# Altium integrated library Renesas Logic.IntLib: 1013 symbols (part 3 of 27)
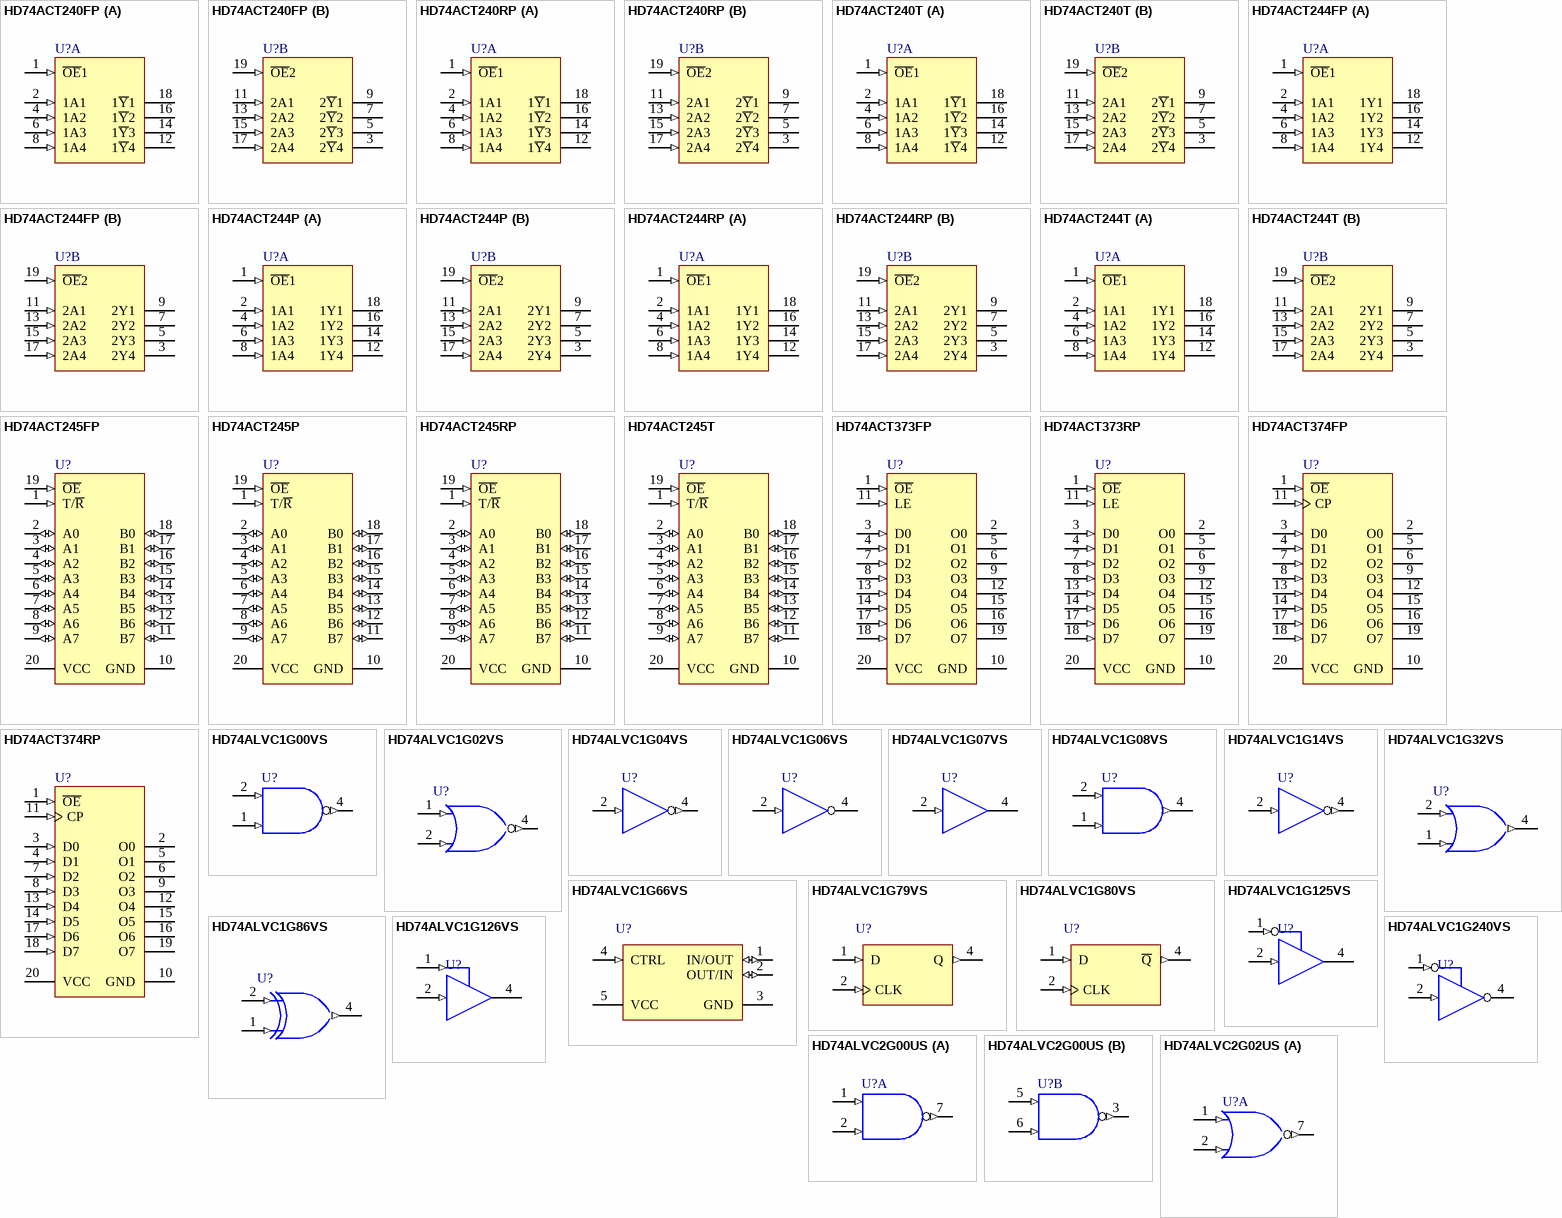
[diagram p55: symbols HD74ACT240FP to HD74ALVC2G02US]

## HD74ACT240FP
designator U?
Octal Buffers / Line Drivers with Inverted 3-State Outputs; Published: 10-Feb-2010; DatasheetVersion: Rev.2.00, Jul-2004; PackageVersion: Sep-2005; PackageReference: PRSP0020DD-B; Publisher: Altium Limited; PackageDescription: 20-Pin Plastic Small Outline Package, 12.6 x 5.5 x 1.8 mm Body, 1.27 mm Pitch; Code_JEITA: P-SOP20-5.5x12.6-1.27; ComponentLink1Description: Manufacturer Link; ComponentLink1URL: http://sg.renesas.com/fmwk.jsp?cnt=hd74ac_root.jsp&fp=/products/standard_ic/general_purpose_logic/5v_standard_logic/hd74ac/; ComponentLink2Description: Datasheet; ComponentLink2URL: http://documentation.renesas.com/eng/products/logic/rej03d0261_hd74ac240.pdf; ComponentLink3Description: Packaging Specification; ComponentLink3URL: http://sg.renesas.com/media/products/common_info/package/pdf/ic/code/prsp0020dd_b.pdf
footprint PRSP0020DD-B_N (SOP, 20-Leads, Body 12.6x5.3mm, Pitch 1.27mm, IPC Medium Density)
footprint PRSP0020DD-B_L (SOP, 20-Leads, Body 12.6x5.3mm, Pitch 1.27mm, IPC High Density)
footprint PRSP0020DD-B_M (SOP, 20-Leads, Body 12.6x5.3mm, Pitch 1.27mm, IPC Low Density)
pins on every part: 10 GND (power) hidden, 20 VCC (power) hidden
part A pins: 1 ~{OE}1 (in), 2 1A1 (in), 4 1A2 (in), 6 1A3 (in), 8 1A4 (in), 12 1~{Y}4 (hiz), 14 1~{Y}3 (hiz), 16 1~{Y}2 (hiz), 18 1~{Y}1 (hiz)
part B pins: 3 2~{Y}4 (hiz), 5 2~{Y}3 (hiz), 7 2~{Y}2 (hiz), 9 2~{Y}1 (hiz), 11 2A1 (in), 13 2A2 (in), 15 2A3 (in), 17 2A4 (in), 19 ~{OE}2 (in)

## HD74ACT240RP
designator U?
Octal Buffers / Line Drivers with Inverted 3-State Outputs; Published: 10-Feb-2010; DatasheetVersion: Rev.2.00, Jul-2004; PackageVersion: Sep-2005; PackageReference: PRSP0020DC-A; Publisher: Altium Limited; PackageDescription: 20-Pin Plastic Small Outline Integrated Circuit, 12.8 x 7.5 mm Body, 1.27 mm Pitch; Code_JEITA: P-SOP20-7.5x12.8-1.27; Code_IPC: SOIC127P1030-20; ComponentLink1Description: Manufacturer Link; ComponentLink1URL: http://sg.renesas.com/fmwk.jsp?cnt=hd74ac_root.jsp&fp=/products/standard_ic/general_purpose_logic/5v_standard_logic/hd74ac/; ComponentLink2Description: Datasheet; ComponentLink2URL: http://documentation.renesas.com/eng/products/logic/rej03d0261_hd74ac240.pdf; ComponentLink3Description: Packaging Specification; ComponentLink3URL: http://sg.renesas.com/media/products/common_info/package/pdf/ic/code/prsp0020dc_a.pdf
footprint PRSP0020DC-A_N (SOIC, 20-Leads, Body 12.8x7.5mm, Pitch 1.27mm, IPC Medium Density)
footprint PRSP0020DC-A_L (SOIC, 20-Leads, Body 12.8x7.5mm, Pitch 1.27mm, IPC High Density)
footprint PRSP0020DC-A_M (SOIC, 20-Leads, Body 12.8x7.5mm, Pitch 1.27mm, IPC Low Density)
pins on every part: 10 GND (power) hidden, 20 VCC (power) hidden
part A pins: 1 ~{OE}1 (in), 2 1A1 (in), 4 1A2 (in), 6 1A3 (in), 8 1A4 (in), 12 1~{Y}4 (hiz), 14 1~{Y}3 (hiz), 16 1~{Y}2 (hiz), 18 1~{Y}1 (hiz)
part B pins: 3 2~{Y}4 (hiz), 5 2~{Y}3 (hiz), 7 2~{Y}2 (hiz), 9 2~{Y}1 (hiz), 11 2A1 (in), 13 2A2 (in), 15 2A3 (in), 17 2A4 (in), 19 ~{OE}2 (in)

## HD74ACT240T
designator U?
Octal Buffers / Line Drivers with Inverted 3-State Outputs; Published: 10-Feb-2010; DatasheetVersion: Rev.2.00, Jul-2004; PackageVersion: Sep-2005; PackageReference: PTSP0020JB-A; Publisher: Altium Limited; PackageDescription: 20-Pin Plastic Thin Small Outline Package, 6.5 x 4.4 mm Body, 0.65 mm Pitch; Code_JEITA: P-TSSOP20-4.4x6.5-0.65; ComponentLink1Description: Manufacturer Link; ComponentLink1URL: http://sg.renesas.com/fmwk.jsp?cnt=hd74ac_root.jsp&fp=/products/standard_ic/general_purpose_logic/5v_standard_logic/hd74ac/; ComponentLink2Description: Datasheet; ComponentLink2URL: http://documentation.renesas.com/eng/products/logic/rej03d0261_hd74ac240.pdf; ComponentLink3Description: Packaging Specification; ComponentLink3URL: http://sg.renesas.com/media/products/common_info/package/pdf/ic/code/ptsp0020jb_a.pdf
footprint PTSP0020JB-A_N (TSOP, 20-Leads, Body 6.5x4.4mm, Pitch 0.65mm, IPC Medium Density)
footprint PTSP0020JB-A_L (TSOP, 20-Leads, Body 6.5x4.4mm, Pitch 0.65mm, IPC High Density)
footprint PTSP0020JB-A_M (TSOP, 20-Leads, Body 6.5x4.4mm, Pitch 0.65mm, IPC Low Density)
pins on every part: 10 GND (power) hidden, 20 VCC (power) hidden
part A pins: 1 ~{OE}1 (in), 2 1A1 (in), 4 1A2 (in), 6 1A3 (in), 8 1A4 (in), 12 1~{Y}4 (hiz), 14 1~{Y}3 (hiz), 16 1~{Y}2 (hiz), 18 1~{Y}1 (hiz)
part B pins: 3 2~{Y}4 (hiz), 5 2~{Y}3 (hiz), 7 2~{Y}2 (hiz), 9 2~{Y}1 (hiz), 11 2A1 (in), 13 2A2 (in), 15 2A3 (in), 17 2A4 (in), 19 ~{OE}2 (in)

## HD74ACT244FP
designator U?
Octal Buffers / Line Drivers with 3-State Outputs; Published: 10-Feb-2010; DatasheetVersion: Rev.2.00, Jul-2004; PackageVersion: Sep-2005; PackageReference: PRSP0020DD-B; Publisher: Altium Limited; PackageDescription: 20-Pin Plastic Small Outline Package, 12.6 x 5.5 x 1.8 mm Body, 1.27 mm Pitch; Code_JEITA: P-SOP20-5.5x12.6-1.27; ComponentLink1Description: Manufacturer Link; ComponentLink1URL: http://sg.renesas.com/fmwk.jsp?cnt=hd74ac_root.jsp&fp=/products/standard_ic/general_purpose_logic/5v_standard_logic/hd74ac/; ComponentLink2Description: Datasheet; ComponentLink2URL: http://documentation.renesas.com/eng/products/logic/rej03d0262_hd74ac244.pdf; ComponentLink3Description: Packaging Specification; ComponentLink3URL: http://sg.renesas.com/media/products/common_info/package/pdf/ic/code/prsp0020dd_b.pdf
footprint PRSP0020DD-B_N (SOP, 20-Leads, Body 12.6x5.3mm, Pitch 1.27mm, IPC Medium Density)
footprint PRSP0020DD-B_L (SOP, 20-Leads, Body 12.6x5.3mm, Pitch 1.27mm, IPC High Density)
footprint PRSP0020DD-B_M (SOP, 20-Leads, Body 12.6x5.3mm, Pitch 1.27mm, IPC Low Density)
pins on every part: 10 GND (power) hidden, 20 VCC (power) hidden
part A pins: 1 ~{OE}1 (in), 2 1A1 (in), 4 1A2 (in), 6 1A3 (in), 8 1A4 (in), 12 1Y4 (hiz), 14 1Y3 (hiz), 16 1Y2 (hiz), 18 1Y1 (hiz)
part B pins: 3 2Y4 (hiz), 5 2Y3 (hiz), 7 2Y2 (hiz), 9 2Y1 (hiz), 11 2A1 (in), 13 2A2 (in), 15 2A3 (in), 17 2A4 (in), 19 ~{OE}2 (in)

## HD74ACT244P
designator U?
Octal Buffers / Line Drivers with 3-State Outputs; Published: 10-Feb-2010; DatasheetVersion: Rev.2.00, Jul-2004; PackageVersion: Sep-2005; PackageReference: PRDP0020AC-B; Publisher: Altium Limited; PackageDescription: 20-Pin Plastic DIP, 24.5 x 6.3 mm Body, 7.62 mm Row Spacing, 2.54 mm Pitch; Code_JEITA: P-DIP20-6.3x24.5-2.54; ComponentLink1Description: Manufacturer Link; ComponentLink1URL: http://sg.renesas.com/fmwk.jsp?cnt=hd74ac_root.jsp&fp=/products/standard_ic/general_purpose_logic/5v_standard_logic/hd74ac/; ComponentLink2Description: Datasheet; ComponentLink2URL: http://documentation.renesas.com/eng/products/logic/rej03d0262_hd74ac244.pdf; ComponentLink3Description: Packaging Specification; ComponentLink3URL: http://sg.renesas.com/media/products/common_info/package/pdf/ic/code/prdp0020ac_b.pdf
footprint PRDP0020AC-B (DIP, 20-Leads, Row Spacing 7.62mm, Pitch 2.54mm, Body 24.5x6.3mm)
pins on every part: 10 GND (power) hidden, 20 VCC (power) hidden
part A pins: 1 ~{OE}1 (in), 2 1A1 (in), 4 1A2 (in), 6 1A3 (in), 8 1A4 (in), 12 1Y4 (hiz), 14 1Y3 (hiz), 16 1Y2 (hiz), 18 1Y1 (hiz)
part B pins: 3 2Y4 (hiz), 5 2Y3 (hiz), 7 2Y2 (hiz), 9 2Y1 (hiz), 11 2A1 (in), 13 2A2 (in), 15 2A3 (in), 17 2A4 (in), 19 ~{OE}2 (in)

## HD74ACT244RP
designator U?
Octal Buffers / Line Drivers with 3-State Outputs; Published: 10-Feb-2010; DatasheetVersion: Rev.2.00, Jul-2004; PackageVersion: Sep-2005; PackageReference: PRSP0020DC-A; Publisher: Altium Limited; PackageDescription: 20-Pin Plastic Small Outline Integrated Circuit, 12.8 x 7.5 mm Body, 1.27 mm Pitch; Code_JEITA: P-SOP20-7.5x12.8-1.27; Code_IPC: SOIC127P1030-20; ComponentLink1Description: Manufacturer Link; ComponentLink1URL: http://sg.renesas.com/fmwk.jsp?cnt=hd74ac_root.jsp&fp=/products/standard_ic/general_purpose_logic/5v_standard_logic/hd74ac/; ComponentLink2Description: Datasheet; ComponentLink2URL: http://documentation.renesas.com/eng/products/logic/rej03d0262_hd74ac244.pdf; ComponentLink3Description: Packaging Specification; ComponentLink3URL: http://sg.renesas.com/media/products/common_info/package/pdf/ic/code/prsp0020dc_a.pdf
footprint PRSP0020DC-A_N (SOIC, 20-Leads, Body 12.8x7.5mm, Pitch 1.27mm, IPC Medium Density)
footprint PRSP0020DC-A_L (SOIC, 20-Leads, Body 12.8x7.5mm, Pitch 1.27mm, IPC High Density)
footprint PRSP0020DC-A_M (SOIC, 20-Leads, Body 12.8x7.5mm, Pitch 1.27mm, IPC Low Density)
pins on every part: 10 GND (power) hidden, 20 VCC (power) hidden
part A pins: 1 ~{OE}1 (in), 2 1A1 (in), 4 1A2 (in), 6 1A3 (in), 8 1A4 (in), 12 1Y4 (hiz), 14 1Y3 (hiz), 16 1Y2 (hiz), 18 1Y1 (hiz)
part B pins: 3 2Y4 (hiz), 5 2Y3 (hiz), 7 2Y2 (hiz), 9 2Y1 (hiz), 11 2A1 (in), 13 2A2 (in), 15 2A3 (in), 17 2A4 (in), 19 ~{OE}2 (in)

## HD74ACT244T
designator U?
Octal Buffers / Line Drivers with 3-State Outputs; Published: 10-Feb-2010; DatasheetVersion: Rev.2.00, Jul-2004; PackageVersion: Sep-2005; PackageReference: PTSP0020JB-A; Publisher: Altium Limited; PackageDescription: 20-Pin Plastic Thin Small Outline Package, 6.5 x 4.4 mm Body, 0.65 mm Pitch; Code_JEITA: P-TSSOP20-4.4x6.5-0.65; ComponentLink1Description: Manufacturer Link; ComponentLink1URL: http://sg.renesas.com/fmwk.jsp?cnt=hd74ac_root.jsp&fp=/products/standard_ic/general_purpose_logic/5v_standard_logic/hd74ac/; ComponentLink2Description: Datasheet; ComponentLink2URL: http://documentation.renesas.com/eng/products/logic/rej03d0262_hd74ac244.pdf; ComponentLink3Description: Packaging Specification; ComponentLink3URL: http://sg.renesas.com/media/products/common_info/package/pdf/ic/code/ptsp0020jb_a.pdf
footprint PTSP0020JB-A_N (TSOP, 20-Leads, Body 6.5x4.4mm, Pitch 0.65mm, IPC Medium Density)
footprint PTSP0020JB-A_L (TSOP, 20-Leads, Body 6.5x4.4mm, Pitch 0.65mm, IPC High Density)
footprint PTSP0020JB-A_M (TSOP, 20-Leads, Body 6.5x4.4mm, Pitch 0.65mm, IPC Low Density)
pins on every part: 10 GND (power) hidden, 20 VCC (power) hidden
part A pins: 1 ~{OE}1 (in), 2 1A1 (in), 4 1A2 (in), 6 1A3 (in), 8 1A4 (in), 12 1Y4 (hiz), 14 1Y3 (hiz), 16 1Y2 (hiz), 18 1Y1 (hiz)
part B pins: 3 2Y4 (hiz), 5 2Y3 (hiz), 7 2Y2 (hiz), 9 2Y1 (hiz), 11 2A1 (in), 13 2A2 (in), 15 2A3 (in), 17 2A4 (in), 19 ~{OE}2 (in)

## HD74ACT245FP
designator U?
Octal Bi-directional Transceivers with 3-State Inputs/Outputs; Published: 10-Feb-2010; DatasheetVersion: Rev.2.00, Jul-2004; PackageVersion: Sep-2005; PackageReference: PRSP0020DD-B; Publisher: Altium Limited; PackageDescription: 20-Pin Plastic Small Outline Package, 12.6 x 5.5 x 1.8 mm Body, 1.27 mm Pitch; Code_JEITA: P-SOP20-5.5x12.6-1.27; ComponentLink1Description: Manufacturer Link; ComponentLink1URL: http://sg.renesas.com/fmwk.jsp?cnt=hd74ac_root.jsp&fp=/products/standard_ic/general_purpose_logic/5v_standard_logic/hd74ac/; ComponentLink2Description: Datasheet; ComponentLink2URL: http://documentation.renesas.com/eng/products/logic/rej03d0263_hd74ac245.pdf; ComponentLink3Description: Packaging Specification; ComponentLink3URL: http://sg.renesas.com/media/products/common_info/package/pdf/ic/code/prsp0020dd_b.pdf
footprint PRSP0020DD-B_N (SOP, 20-Leads, Body 12.6x5.3mm, Pitch 1.27mm, IPC Medium Density)
footprint PRSP0020DD-B_L (SOP, 20-Leads, Body 12.6x5.3mm, Pitch 1.27mm, IPC High Density)
footprint PRSP0020DD-B_M (SOP, 20-Leads, Body 12.6x5.3mm, Pitch 1.27mm, IPC Low Density)
pins: 1 T/~{R} (in), 2 A0 (io), 3 A1 (io), 4 A2 (io), 5 A3 (io), 6 A4 (io), 7 A5 (io), 8 A6 (io), 9 A7 (io), 10 GND (power), 11 B7 (io), 12 B6 (io), 13 B5 (io), 14 B4 (io), 15 B3 (io), 16 B2 (io), 17 B1 (io), 18 B0 (io), 19 ~{OE} (in), 20 VCC (power)

## HD74ACT245P
designator U?
Octal Bi-directional Transceivers with 3-State Inputs/Outputs; Published: 10-Feb-2010; DatasheetVersion: Rev.2.00, Jul-2004; PackageVersion: Sep-2005; PackageReference: PRDP0020AC-B; Publisher: Altium Limited; PackageDescription: 20-Pin Plastic DIP, 24.5 x 6.3 mm Body, 7.62 mm Row Spacing, 2.54 mm Pitch; Code_JEITA: P-DIP20-6.3x24.5-2.54; ComponentLink1Description: Manufacturer Link; ComponentLink1URL: http://sg.renesas.com/fmwk.jsp?cnt=hd74ac_root.jsp&fp=/products/standard_ic/general_purpose_logic/5v_standard_logic/hd74ac/; ComponentLink2Description: Datasheet; ComponentLink2URL: http://documentation.renesas.com/eng/products/logic/rej03d0263_hd74ac245.pdf; ComponentLink3Description: Packaging Specification; ComponentLink3URL: http://sg.renesas.com/media/products/common_info/package/pdf/ic/code/prdp0020ac_b.pdf
footprint PRDP0020AC-B (DIP, 20-Leads, Row Spacing 7.62mm, Pitch 2.54mm, Body 24.5x6.3mm)
pins: 1 T/~{R} (in), 2 A0 (io), 3 A1 (io), 4 A2 (io), 5 A3 (io), 6 A4 (io), 7 A5 (io), 8 A6 (io), 9 A7 (io), 10 GND (power), 11 B7 (io), 12 B6 (io), 13 B5 (io), 14 B4 (io), 15 B3 (io), 16 B2 (io), 17 B1 (io), 18 B0 (io), 19 ~{OE} (in), 20 VCC (power)

## HD74ACT245RP
designator U?
Octal Bi-directional Transceivers with 3-State Inputs/Outputs; Published: 10-Feb-2010; DatasheetVersion: Rev.2.00, Jul-2004; PackageVersion: Sep-2005; PackageReference: PRSP0020DC-A; Publisher: Altium Limited; PackageDescription: 20-Pin Plastic Small Outline Integrated Circuit, 12.8 x 7.5 mm Body, 1.27 mm Pitch; Code_JEITA: P-SOP20-7.5x12.8-1.27; Code_IPC: SOIC127P1030-20; ComponentLink1Description: Manufacturer Link; ComponentLink1URL: http://sg.renesas.com/fmwk.jsp?cnt=hd74ac_root.jsp&fp=/products/standard_ic/general_purpose_logic/5v_standard_logic/hd74ac/; ComponentLink2Description: Datasheet; ComponentLink2URL: http://documentation.renesas.com/eng/products/logic/rej03d0263_hd74ac245.pdf; ComponentLink3Description: Packaging Specification; ComponentLink3URL: http://sg.renesas.com/media/products/common_info/package/pdf/ic/code/prsp0020dc_a.pdf
footprint PRSP0020DC-A_N (SOIC, 20-Leads, Body 12.8x7.5mm, Pitch 1.27mm, IPC Medium Density)
footprint PRSP0020DC-A_L (SOIC, 20-Leads, Body 12.8x7.5mm, Pitch 1.27mm, IPC High Density)
footprint PRSP0020DC-A_M (SOIC, 20-Leads, Body 12.8x7.5mm, Pitch 1.27mm, IPC Low Density)
pins: 1 T/~{R} (in), 2 A0 (io), 3 A1 (io), 4 A2 (io), 5 A3 (io), 6 A4 (io), 7 A5 (io), 8 A6 (io), 9 A7 (io), 10 GND (power), 11 B7 (io), 12 B6 (io), 13 B5 (io), 14 B4 (io), 15 B3 (io), 16 B2 (io), 17 B1 (io), 18 B0 (io), 19 ~{OE} (in), 20 VCC (power)

## HD74ACT245T
designator U?
Octal Bi-directional Transceivers with 3-State Inputs/Outputs; Published: 10-Feb-2010; DatasheetVersion: Rev.2.00, Jul-2004; PackageVersion: Sep-2005; PackageReference: PTSP0020JB-A; Publisher: Altium Limited; PackageDescription: 20-Pin Plastic Thin Small Outline Package, 6.5 x 4.4 mm Body, 0.65 mm Pitch; Code_JEITA: P-TSSOP20-4.4x6.5-0.65; ComponentLink1Description: Manufacturer Link; ComponentLink1URL: http://sg.renesas.com/fmwk.jsp?cnt=hd74ac_root.jsp&fp=/products/standard_ic/general_purpose_logic/5v_standard_logic/hd74ac/; ComponentLink2Description: Datasheet; ComponentLink2URL: http://documentation.renesas.com/eng/products/logic/rej03d0263_hd74ac245.pdf; ComponentLink3Description: Packaging Specification; ComponentLink3URL: http://sg.renesas.com/media/products/common_info/package/pdf/ic/code/ptsp0020jb_a.pdf
footprint PTSP0020JB-A_N (TSOP, 20-Leads, Body 6.5x4.4mm, Pitch 0.65mm, IPC Medium Density)
footprint PTSP0020JB-A_L (TSOP, 20-Leads, Body 6.5x4.4mm, Pitch 0.65mm, IPC High Density)
footprint PTSP0020JB-A_M (TSOP, 20-Leads, Body 6.5x4.4mm, Pitch 0.65mm, IPC Low Density)
pins: 1 T/~{R} (in), 2 A0 (io), 3 A1 (io), 4 A2 (io), 5 A3 (io), 6 A4 (io), 7 A5 (io), 8 A6 (io), 9 A7 (io), 10 GND (power), 11 B7 (io), 12 B6 (io), 13 B5 (io), 14 B4 (io), 15 B3 (io), 16 B2 (io), 17 B1 (io), 18 B0 (io), 19 ~{OE} (in), 20 VCC (power)

## HD74ACT373FP
designator U?
Octal Transparent Latches with 3-State Outputs; Published: 10-Feb-2010; DatasheetVersion: Rev.2.00, Jul-2004; PackageVersion: Sep-2005; PackageReference: PRSP0020DD-B; Publisher: Altium Limited; PackageDescription: 20-Pin Plastic Small Outline Package, 12.6 x 5.5 x 1.8 mm Body, 1.27 mm Pitch; Code_JEITA: P-SOP20-5.5x12.6-1.27; ComponentLink1Description: Manufacturer Link; ComponentLink1URL: http://sg.renesas.com/fmwk.jsp?cnt=hd74ac_root.jsp&fp=/products/standard_ic/general_purpose_logic/5v_standard_logic/hd74ac/; ComponentLink2Description: Datasheet; ComponentLink2URL: http://documentation.renesas.com/eng/products/logic/rej03d0273_hd74ac373.pdf; ComponentLink3Description: Packaging Specification; ComponentLink3URL: http://sg.renesas.com/media/products/common_info/package/pdf/ic/code/prsp0020dd_b.pdf
footprint PRSP0020DD-B_N (SOP, 20-Leads, Body 12.6x5.3mm, Pitch 1.27mm, IPC Medium Density)
footprint PRSP0020DD-B_L (SOP, 20-Leads, Body 12.6x5.3mm, Pitch 1.27mm, IPC High Density)
footprint PRSP0020DD-B_M (SOP, 20-Leads, Body 12.6x5.3mm, Pitch 1.27mm, IPC Low Density)
pins: 1 ~{OE} (in), 2 O0 (hiz), 3 D0 (in), 4 D1 (in), 5 O1 (hiz), 6 O2 (hiz), 7 D2 (in), 8 D3 (in), 9 O3 (hiz), 10 GND (power), 11 LE (in), 12 O4 (hiz), 13 D4 (in), 14 D5 (in), 15 O5 (hiz), 16 O6 (hiz), 17 D6 (in), 18 D7 (in), 19 O7 (hiz), 20 VCC (power)

## HD74ACT373RP
designator U?
Octal Transparent Latches with 3-State Outputs; Published: 10-Feb-2010; DatasheetVersion: Rev.2.00, Jul-2004; PackageVersion: Sep-2005; PackageReference: PRSP0020DC-A; Publisher: Altium Limited; PackageDescription: 20-Pin Plastic Small Outline Integrated Circuit, 12.8 x 7.5 mm Body, 1.27 mm Pitch; Code_JEITA: P-SOP20-7.5x12.8-1.27; Code_IPC: SOIC127P1030-20; ComponentLink1Description: Manufacturer Link; ComponentLink1URL: http://sg.renesas.com/fmwk.jsp?cnt=hd74ac_root.jsp&fp=/products/standard_ic/general_purpose_logic/5v_standard_logic/hd74ac/; ComponentLink2Description: Datasheet; ComponentLink2URL: http://documentation.renesas.com/eng/products/logic/rej03d0273_hd74ac373.pdf; ComponentLink3Description: Packaging Specification; ComponentLink3URL: http://sg.renesas.com/media/products/common_info/package/pdf/ic/code/prsp0020dc_a.pdf
footprint PRSP0020DC-A_N (SOIC, 20-Leads, Body 12.8x7.5mm, Pitch 1.27mm, IPC Medium Density)
footprint PRSP0020DC-A_L (SOIC, 20-Leads, Body 12.8x7.5mm, Pitch 1.27mm, IPC High Density)
footprint PRSP0020DC-A_M (SOIC, 20-Leads, Body 12.8x7.5mm, Pitch 1.27mm, IPC Low Density)
pins: 1 ~{OE} (in), 2 O0 (hiz), 3 D0 (in), 4 D1 (in), 5 O1 (hiz), 6 O2 (hiz), 7 D2 (in), 8 D3 (in), 9 O3 (hiz), 10 GND (power), 11 LE (in), 12 O4 (hiz), 13 D4 (in), 14 D5 (in), 15 O5 (hiz), 16 O6 (hiz), 17 D6 (in), 18 D7 (in), 19 O7 (hiz), 20 VCC (power)

## HD74ACT374FP
designator U?
Octal D-Type Flip-Flops with 3-State Output; Published: 10-Feb-2010; DatasheetVersion: Rev.2.00, Jul-2004; PackageVersion: Sep-2005; PackageReference: PRSP0020DD-B; Publisher: Altium Limited; PackageDescription: 20-Pin Plastic Small Outline Package, 12.6 x 5.5 x 1.8 mm Body, 1.27 mm Pitch; Code_JEITA: P-SOP20-5.5x12.6-1.27; ComponentLink1Description: Manufacturer Link; ComponentLink1URL: http://sg.renesas.com/fmwk.jsp?cnt=hd74ac_root.jsp&fp=/products/standard_ic/general_purpose_logic/5v_standard_logic/hd74ac/; ComponentLink2Description: Datasheet; ComponentLink2URL: http://documentation.renesas.com/eng/products/logic/rej03d0274_hd74ac374.pdf; ComponentLink3Description: Packaging Specification; ComponentLink3URL: http://sg.renesas.com/media/products/common_info/package/pdf/ic/code/prsp0020dd_b.pdf
footprint PRSP0020DD-B_N (SOP, 20-Leads, Body 12.6x5.3mm, Pitch 1.27mm, IPC Medium Density)
footprint PRSP0020DD-B_L (SOP, 20-Leads, Body 12.6x5.3mm, Pitch 1.27mm, IPC High Density)
footprint PRSP0020DD-B_M (SOP, 20-Leads, Body 12.6x5.3mm, Pitch 1.27mm, IPC Low Density)
pins: 1 ~{OE} (in), 2 O0 (hiz), 3 D0 (in), 4 D1 (in), 5 O1 (hiz), 6 O2 (hiz), 7 D2 (in), 8 D3 (in), 9 O3 (hiz), 10 GND (power), 11 CP (in), 12 O4 (hiz), 13 D4 (in), 14 D5 (in), 15 O5 (hiz), 16 O6 (hiz), 17 D6 (in), 18 D7 (in), 19 O7 (hiz), 20 VCC (power)

## HD74ACT374RP
designator U?
Octal D-Type Flip-Flops with 3-State Output; Published: 10-Feb-2010; DatasheetVersion: Rev.2.00, Jul-2004; PackageVersion: Sep-2005; PackageReference: PRSP0020DC-A; Publisher: Altium Limited; PackageDescription: 20-Pin Plastic Small Outline Integrated Circuit, 12.8 x 7.5 mm Body, 1.27 mm Pitch; Code_JEITA: P-SOP20-7.5x12.8-1.27; Code_IPC: SOIC127P1030-20; ComponentLink1Description: Manufacturer Link; ComponentLink1URL: http://sg.renesas.com/fmwk.jsp?cnt=hd74ac_root.jsp&fp=/products/standard_ic/general_purpose_logic/5v_standard_logic/hd74ac/; ComponentLink2Description: Datasheet; ComponentLink2URL: http://documentation.renesas.com/eng/products/logic/rej03d0274_hd74ac374.pdf; ComponentLink3Description: Packaging Specification; ComponentLink3URL: http://sg.renesas.com/media/products/common_info/package/pdf/ic/code/prsp0020dc_a.pdf
footprint PRSP0020DC-A_N (SOIC, 20-Leads, Body 12.8x7.5mm, Pitch 1.27mm, IPC Medium Density)
footprint PRSP0020DC-A_L (SOIC, 20-Leads, Body 12.8x7.5mm, Pitch 1.27mm, IPC High Density)
footprint PRSP0020DC-A_M (SOIC, 20-Leads, Body 12.8x7.5mm, Pitch 1.27mm, IPC Low Density)
pins: 1 ~{OE} (in), 2 O0 (hiz), 3 D0 (in), 4 D1 (in), 5 O1 (hiz), 6 O2 (hiz), 7 D2 (in), 8 D3 (in), 9 O3 (hiz), 10 GND (power), 11 CP (in), 12 O4 (hiz), 13 D4 (in), 14 D5 (in), 15 O5 (hiz), 16 O6 (hiz), 17 D6 (in), 18 D7 (in), 19 O7 (hiz), 20 VCC (power)

## HD74ALVC1G00VS
designator U?
2-Input NAND Gate; Published: 10-Feb-2010; DatasheetVersion: Rev.6.00, Jun-2005; PackageVersion: Sep-2005; PackageReference: PUSN0005KA-A; Publisher: Altium Limited; PackageDescription: 5-Pin Dual Lead-Flat Package 0.5 mm Pitch (VSON-5); Code_JEITA: P-USON5-1.2x1.6-0.50; ComponentLink1Description: Manufacturer Link; ComponentLink1URL: http://sg.renesas.com/fmwk.jsp?cnt=unilogic_alvc_root.jsp&fp=/products/standard_ic/general_purpose_logic/uni_logic/unilogic_alvc/; ComponentLink2Description: Datasheet; ComponentLink2URL: http://documentation.renesas.com/eng/products/logic/rej03d0105_hd74alvc1g00.pdf; ComponentLink3Description: Packaging Specification; ComponentLink3URL: http://sg.renesas.com/media/products/common_info/package/pdf/ic/code/pusn0005ka_a.pdf
footprint PUSN0005KA-A (SOP, 5-Flat Leads, Body 1.6x1.2x0.55mm, Pitch 0.5mm, Renesas Recommended)
pins: 1 IN B (in), 2 IN A (in), 3 GND (power) hidden, 4 OUT Y (out), 5 VCC (power) hidden

## HD74ALVC1G02VS
designator U?
2-Input NOR Gate; Published: 10-Feb-2010; DatasheetVersion: Rev.6.00, Jun-2005; PackageVersion: Sep-2005; PackageReference: PUSN0005KA-A; Publisher: Altium Limited; PackageDescription: 5-Pin Dual Lead-Flat Package 0.5 mm Pitch (VSON-5); Code_JEITA: P-USON5-1.2x1.6-0.50; ComponentLink1Description: Manufacturer Link; ComponentLink1URL: http://sg.renesas.com/fmwk.jsp?cnt=unilogic_alvc_root.jsp&fp=/products/standard_ic/general_purpose_logic/uni_logic/unilogic_alvc/; ComponentLink2Description: Datasheet; ComponentLink2URL: http://documentation.renesas.com/eng/products/logic/rej03d0106_hd74alvc1g02.pdf; ComponentLink3Description: Packaging Specification; ComponentLink3URL: http://sg.renesas.com/media/products/common_info/package/pdf/ic/code/pusn0005ka_a.pdf
footprint PUSN0005KA-A (SOP, 5-Flat Leads, Body 1.6x1.2x0.55mm, Pitch 0.5mm, Renesas Recommended)
pins: 1 IN B (in), 2 IN A (in), 3 GND (power) hidden, 4 OUT Y (out), 5 VCC (power) hidden

## HD74ALVC1G04VS
designator U?
Single Inverter Buffer; Published: 10-Feb-2010; DatasheetVersion: Rev.2.00, Oct-2003; PackageVersion: Sep-2005; PackageReference: PUSN0005KA-A; Publisher: Altium Limited; PackageDescription: 5-Pin Dual Lead-Flat Package 0.5 mm Pitch (VSON-5); Code_JEITA: P-USON5-1.2x1.6-0.50; ComponentLink1Description: Manufacturer Link; ComponentLink1URL: http://sg.renesas.com/fmwk.jsp?cnt=unilogic_alvc_root.jsp&fp=/products/standard_ic/general_purpose_logic/uni_logic/unilogic_alvc/; ComponentLink2Description: Datasheet; ComponentLink2URL: http://documentation.renesas.com/eng/products/logic/rej03d0107_hd74alvc1g04.pdf; ComponentLink3Description: Packaging Specification; ComponentLink3URL: http://sg.renesas.com/media/products/common_info/package/pdf/ic/code/pusn0005ka_a.pdf
footprint PUSN0005KA-A (SOP, 5-Flat Leads, Body 1.6x1.2x0.55mm, Pitch 0.5mm, Renesas Recommended)
pins: 1 NC hidden, 2 IN A (in), 3 GND (power) hidden, 4 OUT ~{Y} (out), 5 VCC (power) hidden

## HD74ALVC1G06VS
designator U?
Single Inverter Buffer / Driver with Open Drain; Published: 10-Feb-2010; DatasheetVersion: Rev.5.00, Sep-2006; PackageVersion: Sep-2005; PackageReference: PUSN0005KA-A; Publisher: Altium Limited; PackageDescription: 5-Pin Dual Lead-Flat Package 0.5 mm Pitch (VSON-5); Code_JEITA: P-USON5-1.2x1.6-0.50; ComponentLink1Description: Manufacturer Link; ComponentLink1URL: http://sg.renesas.com/fmwk.jsp?cnt=unilogic_alvc_root.jsp&fp=/products/standard_ic/general_purpose_logic/uni_logic/unilogic_alvc/; ComponentLink2Description: Datasheet; ComponentLink2URL: http://documentation.renesas.com/eng/products/logic/rej03d0108_hd74alvc1g06.pdf; ComponentLink3Description: Packaging Specification; ComponentLink3URL: http://sg.renesas.com/media/products/common_info/package/pdf/ic/code/pusn0005ka_a.pdf
footprint PUSN0005KA-A (SOP, 5-Flat Leads, Body 1.6x1.2x0.55mm, Pitch 0.5mm, Renesas Recommended)
pins: 1 NC hidden, 2 IN A (in), 3 GND (power) hidden, 4 OUT ~{Y} (oc), 5 VCC (power) hidden

## HD74ALVC1G07VS
designator U?
Single Buffer / Driver with Open Drain; Published: 10-Feb-2010; DatasheetVersion: Rev.5.00, Sep-2006; PackageVersion: Sep-2005; PackageReference: PUSN0005KA-A; Publisher: Altium Limited; PackageDescription: 5-Pin Dual Lead-Flat Package 0.5 mm Pitch (VSON-5); Code_JEITA: P-USON5-1.2x1.6-0.50; ComponentLink1Description: Manufacturer Link; ComponentLink1URL: http://sg.renesas.com/fmwk.jsp?cnt=unilogic_alvc_root.jsp&fp=/products/standard_ic/general_purpose_logic/uni_logic/unilogic_alvc/; ComponentLink2Description: Datasheet; ComponentLink2URL: http://documentation.renesas.com/eng/products/logic/rej03d0109_hd74alvc1g07.pdf; ComponentLink3Description: Packaging Specification; ComponentLink3URL: http://sg.renesas.com/media/products/common_info/package/pdf/ic/code/pusn0005ka_a.pdf
footprint PUSN0005KA-A (SOP, 5-Flat Leads, Body 1.6x1.2x0.55mm, Pitch 0.5mm, Renesas Recommended)
pins: 1 NC hidden, 2 IN A (in), 3 GND (power) hidden, 4 OUT Y (oc), 5 VCC (power) hidden

## HD74ALVC1G08VS
designator U?
2-Input AND Gate; Published: 10-Feb-2010; DatasheetVersion: Rev.6.00, Jun-2005; PackageVersion: Sep-2005; PackageReference: PUSN0005KA-A; Publisher: Altium Limited; PackageDescription: 5-Pin Dual Lead-Flat Package 0.5 mm Pitch (VSON-5); Code_JEITA: P-USON5-1.2x1.6-0.50; ComponentLink1Description: Manufacturer Link; ComponentLink1URL: http://sg.renesas.com/fmwk.jsp?cnt=unilogic_alvc_root.jsp&fp=/products/standard_ic/general_purpose_logic/uni_logic/unilogic_alvc/; ComponentLink2Description: Datasheet; ComponentLink2URL: http://documentation.renesas.com/eng/products/logic/rej03d0110_hd74alvc1g08.pdf; ComponentLink3Description: Packaging Specification; ComponentLink3URL: http://sg.renesas.com/media/products/common_info/package/pdf/ic/code/pusn0005ka_a.pdf
footprint PUSN0005KA-A (SOP, 5-Flat Leads, Body 1.6x1.2x0.55mm, Pitch 0.5mm, Renesas Recommended)
pins: 1 IN B (in), 2 IN A (in), 3 GND (power) hidden, 4 OUT Y (out), 5 VCC (power) hidden

## HD74ALVC1G14VS
designator U?
Schmitt Trigger Inverter Buffer; Published: 10-Feb-2010; DatasheetVersion: Rev.3.00, Nov-2003; PackageVersion: Sep-2005; PackageReference: PUSN0005KA-A; Publisher: Altium Limited; PackageDescription: 5-Pin Dual Lead-Flat Package 0.5 mm Pitch (VSON-5); Code_JEITA: P-USON5-1.2x1.6-0.50; ComponentLink1Description: Manufacturer Link; ComponentLink1URL: http://sg.renesas.com/fmwk.jsp?cnt=unilogic_alvc_root.jsp&fp=/products/standard_ic/general_purpose_logic/uni_logic/unilogic_alvc/; ComponentLink2Description: Datasheet; ComponentLink2URL: http://documentation.renesas.com/eng/products/logic/rej03d0111_hd74alvc1g14.pdf; ComponentLink3Description: Packaging Specification; ComponentLink3URL: http://sg.renesas.com/media/products/common_info/package/pdf/ic/code/pusn0005ka_a.pdf
footprint PUSN0005KA-A (SOP, 5-Flat Leads, Body 1.6x1.2x0.55mm, Pitch 0.5mm, Renesas Recommended)
pins: 1 NC hidden, 2 IN A (in), 3 GND (power) hidden, 4 OUT ~{Y} (out), 5 VCC (power) hidden

## HD74ALVC1G32VS
designator U?
2-Input OR Gate; Published: 10-Feb-2010; DatasheetVersion: Rev.6.00, Jun-2005; PackageVersion: Sep-2005; PackageReference: PUSN0005KA-A; Publisher: Altium Limited; PackageDescription: 5-Pin Dual Lead-Flat Package 0.5 mm Pitch (VSON-5); Code_JEITA: P-USON5-1.2x1.6-0.50; ComponentLink1Description: Manufacturer Link; ComponentLink1URL: http://sg.renesas.com/fmwk.jsp?cnt=unilogic_alvc_root.jsp&fp=/products/standard_ic/general_purpose_logic/uni_logic/unilogic_alvc/; ComponentLink2Description: Datasheet; ComponentLink2URL: http://documentation.renesas.com/eng/products/logic/rej03d0112_hd74alvc1g32.pdf; ComponentLink3Description: Packaging Specification; ComponentLink3URL: http://sg.renesas.com/media/products/common_info/package/pdf/ic/code/pusn0005ka_a.pdf
footprint PUSN0005KA-A (SOP, 5-Flat Leads, Body 1.6x1.2x0.55mm, Pitch 0.5mm, Renesas Recommended)
pins: 1 IN B (in), 2 IN A (in), 3 GND (power) hidden, 4 OUT Y (out), 5 VCC (power) hidden

## HD74ALVC1G66VS
designator U?
Analog Switch; Published: 10-Feb-2010; DatasheetVersion: Rev.3.00, Nov-2003; PackageVersion: Sep-2005; PackageReference: PUSN0005KA-A; Publisher: Altium Limited; PackageDescription: 5-Pin Dual Lead-Flat Package 0.5 mm Pitch (VSON-5); Code_JEITA: P-USON5-1.2x1.6-0.50; ComponentLink1Description: Manufacturer Link; ComponentLink1URL: http://sg.renesas.com/fmwk.jsp?cnt=unilogic_alvc_root.jsp&fp=/products/standard_ic/general_purpose_logic/uni_logic/unilogic_alvc/; ComponentLink2Description: Datasheet; ComponentLink2URL: http://documentation.renesas.com/eng/products/logic/rej03d0125_hd74alvc1g66.pdf; ComponentLink3Description: Packaging Specification; ComponentLink3URL: http://sg.renesas.com/media/products/common_info/package/pdf/ic/code/pusn0005ka_a.pdf
footprint PUSN0005KA-A (SOP, 5-Flat Leads, Body 1.6x1.2x0.55mm, Pitch 0.5mm, Renesas Recommended)
pins: 1 IN/OUT (io), 2 OUT/IN (io), 3 GND (power), 4 CTRL (in), 5 VCC (power)

## HD74ALVC1G79VS
designator U?
Single Positive Edge-Triggered D-Type Flip-Flop; Published: 10-Feb-2010; DatasheetVersion: Rev.3.00, Nov-2003; PackageVersion: Sep-2005; PackageReference: PUSN0005KA-A; Publisher: Altium Limited; PackageDescription: 5-Pin Dual Lead-Flat Package 0.5 mm Pitch (VSON-5); Code_JEITA: P-USON5-1.2x1.6-0.50; ComponentLink1Description: Manufacturer Link; ComponentLink1URL: http://sg.renesas.com/fmwk.jsp?cnt=unilogic_alvc_root.jsp&fp=/products/standard_ic/general_purpose_logic/uni_logic/unilogic_alvc/; ComponentLink2Description: Datasheet; ComponentLink2URL: http://documentation.renesas.com/eng/products/logic/rej03d0126_hd74alvc1g79.pdf; ComponentLink3Description: Packaging Specification; ComponentLink3URL: http://sg.renesas.com/media/products/common_info/package/pdf/ic/code/pusn0005ka_a.pdf
footprint PUSN0005KA-A (SOP, 5-Flat Leads, Body 1.6x1.2x0.55mm, Pitch 0.5mm, Renesas Recommended)
pins: 1 D (in), 2 CLK (in), 3 GND (power) hidden, 4 Q (out), 5 VCC (power) hidden

## HD74ALVC1G80VS
designator U?
Single Positive Edge-Triggered D-Type Flip-Flop; Published: 10-Feb-2010; DatasheetVersion: Rev.3.00, Nov-2003; PackageVersion: Sep-2005; PackageReference: PUSN0005KA-A; Publisher: Altium Limited; PackageDescription: 5-Pin Dual Lead-Flat Package 0.5 mm Pitch (VSON-5); Code_JEITA: P-USON5-1.2x1.6-0.50; ComponentLink1Description: Manufacturer Link; ComponentLink1URL: http://sg.renesas.com/fmwk.jsp?cnt=unilogic_alvc_root.jsp&fp=/products/standard_ic/general_purpose_logic/uni_logic/unilogic_alvc/; ComponentLink2Description: Datasheet; ComponentLink2URL: http://documentation.renesas.com/eng/products/logic/rej03d0127_hd74alvc1g80.pdf; ComponentLink3Description: Packaging Specification; ComponentLink3URL: http://sg.renesas.com/media/products/common_info/package/pdf/ic/code/pusn0005ka_a.pdf
footprint PUSN0005KA-A (SOP, 5-Flat Leads, Body 1.6x1.2x0.55mm, Pitch 0.5mm, Renesas Recommended)
pins: 1 D (in), 2 CLK (in), 3 GND (power) hidden, 4 ~{Q} (out), 5 VCC (power) hidden

## HD74ALVC1G86VS
designator U?
2-Input Exclusive-OR Gate; Published: 10-Feb-2010; DatasheetVersion: Rev.5.00, Jun-2005; PackageVersion: Sep-2005; PackageReference: PUSN0005KA-A; Publisher: Altium Limited; PackageDescription: 5-Pin Dual Lead-Flat Package 0.5 mm Pitch (VSON-5); Code_JEITA: P-USON5-1.2x1.6-0.50; ComponentLink1Description: Manufacturer Link; ComponentLink1URL: http://sg.renesas.com/fmwk.jsp?cnt=unilogic_alvc_root.jsp&fp=/products/standard_ic/general_purpose_logic/uni_logic/unilogic_alvc/; ComponentLink2Description: Datasheet; ComponentLink2URL: http://documentation.renesas.com/eng/products/logic/rej03d0128_hd74alvc1g86.pdf; ComponentLink3Description: Packaging Specification; ComponentLink3URL: http://sg.renesas.com/media/products/common_info/package/pdf/ic/code/pusn0005ka_a.pdf
footprint PUSN0005KA-A (SOP, 5-Flat Leads, Body 1.6x1.2x0.55mm, Pitch 0.5mm, Renesas Recommended)
pins: 1 IN B (in), 2 IN A (in), 3 GND (power) hidden, 4 OUT Y (out), 5 VCC (power) hidden

## HD74ALVC1G125VS
designator U?
Bus Buffer Gate with 3-State Output; Published: 10-Feb-2010; DatasheetVersion: Rev.3.00, Nov-2003; PackageVersion: Sep-2005; PackageReference: PUSN0005KA-A; Publisher: Altium Limited; PackageDescription: 5-Pin Dual Lead-Flat Package 0.5 mm Pitch (VSON-5); Code_JEITA: P-USON5-1.2x1.6-0.50; ComponentLink1Description: Manufacturer Link; ComponentLink1URL: http://sg.renesas.com/fmwk.jsp?cnt=unilogic_alvc_root.jsp&fp=/products/standard_ic/general_purpose_logic/uni_logic/unilogic_alvc/; ComponentLink2Description: Datasheet; ComponentLink2URL: http://documentation.renesas.com/eng/products/logic/rej03d0129_hd74alvc1g125.pdf; ComponentLink3Description: Packaging Specification; ComponentLink3URL: http://sg.renesas.com/media/products/common_info/package/pdf/ic/code/pusn0005ka_a.pdf
footprint PUSN0005KA-A (SOP, 5-Flat Leads, Body 1.6x1.2x0.55mm, Pitch 0.5mm, Renesas Recommended)
pins: 1 ~{OE} (in), 2 A (in), 3 GND (power) hidden, 4 Y (hiz), 5 VCC (power) hidden

## HD74ALVC1G126VS
designator U?
Bus Buffer Gate with 3-State Output; Published: 10-Feb-2010; DatasheetVersion: Rev.3.00, Nov-2003; PackageVersion: Sep-2005; PackageReference: PUSN0005KA-A; Publisher: Altium Limited; PackageDescription: 5-Pin Dual Lead-Flat Package 0.5 mm Pitch (VSON-5); Code_JEITA: P-USON5-1.2x1.6-0.50; ComponentLink1Description: Manufacturer Link; ComponentLink1URL: http://sg.renesas.com/fmwk.jsp?cnt=unilogic_alvc_root.jsp&fp=/products/standard_ic/general_purpose_logic/uni_logic/unilogic_alvc/; ComponentLink2Description: Datasheet; ComponentLink2URL: http://documentation.renesas.com/eng/products/logic/rej03d0130_hd74alvc1g126.pdf; ComponentLink3Description: Packaging Specification; ComponentLink3URL: http://sg.renesas.com/media/products/common_info/package/pdf/ic/code/pusn0005ka_a.pdf
footprint PUSN0005KA-A (SOP, 5-Flat Leads, Body 1.6x1.2x0.55mm, Pitch 0.5mm, Renesas Recommended)
pins: 1 OE (in), 2 A (in), 3 GND (power) hidden, 4 Y (hiz), 5 VCC (power) hidden

## HD74ALVC1G240VS
designator U?
Bus Buffer Inverted with 3-State Output; Published: 10-Feb-2010; DatasheetVersion: Rev.3.00, Nov-2003; PackageVersion: Sep-2005; PackageReference: PUSN0005KA-A; Publisher: Altium Limited; PackageDescription: 5-Pin Dual Lead-Flat Package 0.5 mm Pitch (VSON-5); Code_JEITA: P-USON5-1.2x1.6-0.50; ComponentLink1Description: Manufacturer Link; ComponentLink1URL: http://sg.renesas.com/fmwk.jsp?cnt=unilogic_alvc_root.jsp&fp=/products/standard_ic/general_purpose_logic/uni_logic/unilogic_alvc/; ComponentLink2Description: Datasheet; ComponentLink2URL: http://documentation.renesas.com/eng/products/logic/rej03d0131_hd74alvc1g240.pdf; ComponentLink3Description: Packaging Specification; ComponentLink3URL: http://sg.renesas.com/media/products/common_info/package/pdf/ic/code/pusn0005ka_a.pdf
footprint PUSN0005KA-A (SOP, 5-Flat Leads, Body 1.6x1.2x0.55mm, Pitch 0.5mm, Renesas Recommended)
pins: 1 ~{OE} (in), 2 A (in), 3 GND (power) hidden, 4 ~{Y} (hiz), 5 VCC (power) hidden

## HD74ALVC2G00US
designator U?
Dual 2-Input NAND Gates; Published: 10-Feb-2010; DatasheetVersion: Rev.4.00, Dec-2003; PackageVersion: Sep-2005; PackageReference: PVSP0008KA-A; Publisher: Altium Limited; PackageDescription: 8-Pin Plastic Thin Shrink Small Outline Package 0.5 mm Pitch; Code_JEITA: P-VSSOP8-2.3x2-0.50; ComponentLink1Description: Manufacturer Link; ComponentLink1URL: http://sg.renesas.com/fmwk.jsp?cnt=unilogic_alvc_root.jsp&fp=/products/standard_ic/general_purpose_logic/uni_logic/unilogic_alvc/; ComponentLink2Description: Datasheet; ComponentLink2URL: http://documentation.renesas.com/eng/products/logic/rej03d0159_hd74alvc2g00.pdf; ComponentLink3Description: Packaging Specification; ComponentLink3URL: http://sg.renesas.com/media/products/common_info/package/pdf/ic/code/pvsp0008ka_a.pdf
footprint PVSP0008KA-A_N (TSSOP, 8-Leads, Body 2x2.3mm, Pitch 0.5mm, IPC Medium Density)
footprint PVSP0008KA-A_L (TSSOP, 8-Leads, Body 2x2.3mm, Pitch 0.5mm, IPC High Density)
footprint PVSP0008KA-A_M (TSSOP, 8-Leads, Body 2x2.3mm, Pitch 0.5mm, IPC Low Density)
pins on every part: 4 GND (power) hidden, 8 VCC (power) hidden
part A pins: 1 1A (in), 2 1B (in), 7 1Y (out)
part B pins: 3 2Y (out), 5 2A (in), 6 2B (in)

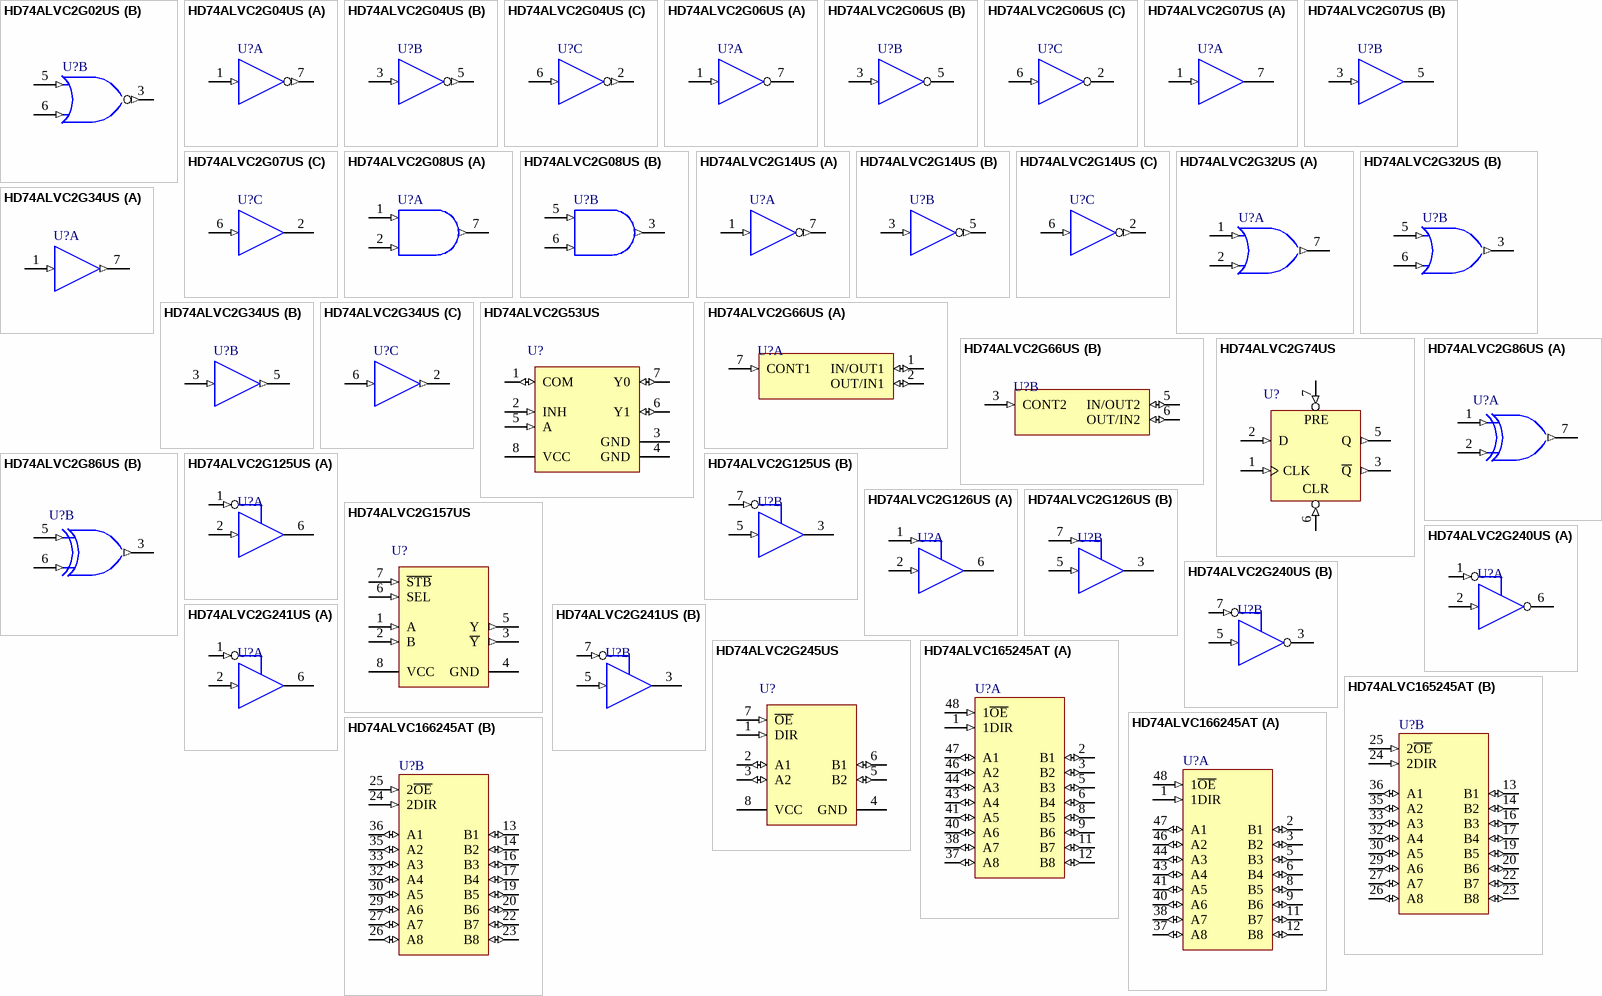
[diagram p6: symbols HD74ALVC2G02US to HD74ALVC166245AT]

## HD74ALVC2G02US
designator U?
Dual 2-Input NOR Gates; Published: 10-Feb-2010; DatasheetVersion: Rev.4.00, Dec-2003; PackageVersion: Sep-2005; PackageReference: PVSP0008KA-A; Publisher: Altium Limited; PackageDescription: 8-Pin Plastic Thin Shrink Small Outline Package 0.5 mm Pitch; Code_JEITA: P-VSSOP8-2.3x2-0.50; ComponentLink1Description: Manufacturer Link; ComponentLink1URL: http://sg.renesas.com/fmwk.jsp?cnt=unilogic_alvc_root.jsp&fp=/products/standard_ic/general_purpose_logic/uni_logic/unilogic_alvc/; ComponentLink2Description: Datasheet; ComponentLink2URL: http://documentation.renesas.com/eng/products/logic/rej03d0160_hd74alvc2g02.pdf; ComponentLink3Description: Packaging Specification; ComponentLink3URL: http://sg.renesas.com/media/products/common_info/package/pdf/ic/code/pvsp0008ka_a.pdf
footprint PVSP0008KA-A_N (TSSOP, 8-Leads, Body 2x2.3mm, Pitch 0.5mm, IPC Medium Density)
footprint PVSP0008KA-A_L (TSSOP, 8-Leads, Body 2x2.3mm, Pitch 0.5mm, IPC High Density)
footprint PVSP0008KA-A_M (TSSOP, 8-Leads, Body 2x2.3mm, Pitch 0.5mm, IPC Low Density)
pins on every part: 4 GND (power) hidden, 8 VCC (power) hidden
part A pins: 1 1A (in), 2 1B (in), 7 1Y (out)
part B pins: 3 2Y (out), 5 2A (in), 6 2B (in)

## HD74ALVC2G04US
designator U?
Triple Inverter Buffers; Published: 10-Feb-2010; DatasheetVersion: Rev.2.00, Dec-2003; PackageVersion: Sep-2005; PackageReference: PVSP0008KA-A; Publisher: Altium Limited; PackageDescription: 8-Pin Plastic Thin Shrink Small Outline Package 0.5 mm Pitch; Code_JEITA: P-VSSOP8-2.3x2-0.50; ComponentLink1Description: Manufacturer Link; ComponentLink1URL: http://sg.renesas.com/fmwk.jsp?cnt=unilogic_alvc_root.jsp&fp=/products/standard_ic/general_purpose_logic/uni_logic/unilogic_alvc/; ComponentLink2Description: Datasheet; ComponentLink2URL: http://documentation.renesas.com/eng/products/logic/rej03d0161_hd74alvc2g04.pdf; ComponentLink3Description: Packaging Specification; ComponentLink3URL: http://sg.renesas.com/media/products/common_info/package/pdf/ic/code/pvsp0008ka_a.pdf
footprint PVSP0008KA-A_N (TSSOP, 8-Leads, Body 2x2.3mm, Pitch 0.5mm, IPC Medium Density)
footprint PVSP0008KA-A_L (TSSOP, 8-Leads, Body 2x2.3mm, Pitch 0.5mm, IPC High Density)
footprint PVSP0008KA-A_M (TSSOP, 8-Leads, Body 2x2.3mm, Pitch 0.5mm, IPC Low Density)
pins on every part: 4 GND (power) hidden, 8 VCC (power) hidden
part A pins: 1 1A (in), 7 1~{Y} (out)
part B pins: 3 2A (in), 5 2~{Y} (out)
part C pins: 2 3~{Y} (out), 6 3A (in)

## HD74ALVC2G06US
designator U?
Triple Inverter Buffers / Drivers with Open Drain; Published: 10-Feb-2010; DatasheetVersion: Rev.5.00, Sep-2006; PackageVersion: Sep-2005; PackageReference: PVSP0008KA-A; Publisher: Altium Limited; PackageDescription: 8-Pin Plastic Thin Shrink Small Outline Package 0.5 mm Pitch; Code_JEITA: P-VSSOP8-2.3x2-0.50; ComponentLink1Description: Manufacturer Link; ComponentLink1URL: http://sg.renesas.com/fmwk.jsp?cnt=unilogic_alvc_root.jsp&fp=/products/standard_ic/general_purpose_logic/uni_logic/unilogic_alvc/; ComponentLink2Description: Datasheet; ComponentLink2URL: http://documentation.renesas.com/eng/products/logic/rej03d0162_hd74alvc2g06.pdf; ComponentLink3Description: Packaging Specification; ComponentLink3URL: http://sg.renesas.com/media/products/common_info/package/pdf/ic/code/pvsp0008ka_a.pdf
footprint PVSP0008KA-A_N (TSSOP, 8-Leads, Body 2x2.3mm, Pitch 0.5mm, IPC Medium Density)
footprint PVSP0008KA-A_L (TSSOP, 8-Leads, Body 2x2.3mm, Pitch 0.5mm, IPC High Density)
footprint PVSP0008KA-A_M (TSSOP, 8-Leads, Body 2x2.3mm, Pitch 0.5mm, IPC Low Density)
pins on every part: 4 GND (power) hidden, 8 VCC (power) hidden
part A pins: 1 1A (in), 7 1~{Y} (oc)
part B pins: 3 2A (in), 5 2~{Y} (oc)
part C pins: 2 3~{Y} (oc), 6 3A (in)

## HD74ALVC2G07US
designator U?
Triple Buffers / Drivers with Open Drain; Published: 10-Feb-2010; DatasheetVersion: Rev.5.00, Sep-2006; PackageVersion: Sep-2005; PackageReference: PVSP0008KA-A; Publisher: Altium Limited; PackageDescription: 8-Pin Plastic Thin Shrink Small Outline Package 0.5 mm Pitch; Code_JEITA: P-VSSOP8-2.3x2-0.50; ComponentLink1Description: Manufacturer Link; ComponentLink1URL: http://sg.renesas.com/fmwk.jsp?cnt=unilogic_alvc_root.jsp&fp=/products/standard_ic/general_purpose_logic/uni_logic/unilogic_alvc/; ComponentLink2Description: Datasheet; ComponentLink2URL: http://documentation.renesas.com/eng/products/logic/rej03d0163_hd74alvc2g07.pdf; ComponentLink3Description: Packaging Specification; ComponentLink3URL: http://sg.renesas.com/media/products/common_info/package/pdf/ic/code/pvsp0008ka_a.pdf
footprint PVSP0008KA-A_N (TSSOP, 8-Leads, Body 2x2.3mm, Pitch 0.5mm, IPC Medium Density)
footprint PVSP0008KA-A_L (TSSOP, 8-Leads, Body 2x2.3mm, Pitch 0.5mm, IPC High Density)
footprint PVSP0008KA-A_M (TSSOP, 8-Leads, Body 2x2.3mm, Pitch 0.5mm, IPC Low Density)
pins on every part: 4 GND (power) hidden, 8 VCC (power) hidden
part A pins: 1 1A (in), 7 1Y (oc)
part B pins: 3 2A (in), 5 2Y (oc)
part C pins: 2 3Y (oc), 6 3A (in)

## HD74ALVC2G08US
designator U?
Dual 2-Input AND Gates; Published: 10-Feb-2010; DatasheetVersion: Rev.4.00, Dec-2003; PackageVersion: Sep-2005; PackageReference: PVSP0008KA-A; Publisher: Altium Limited; PackageDescription: 8-Pin Plastic Thin Shrink Small Outline Package 0.5 mm Pitch; Code_JEITA: P-VSSOP8-2.3x2-0.50; ComponentLink1Description: Manufacturer Link; ComponentLink1URL: http://sg.renesas.com/fmwk.jsp?cnt=unilogic_alvc_root.jsp&fp=/products/standard_ic/general_purpose_logic/uni_logic/unilogic_alvc/; ComponentLink2Description: Datasheet; ComponentLink2URL: http://documentation.renesas.com/eng/products/logic/rej03d0164_hd74alvc2g08.pdf; ComponentLink3Description: Packaging Specification; ComponentLink3URL: http://sg.renesas.com/media/products/common_info/package/pdf/ic/code/pvsp0008ka_a.pdf
footprint PVSP0008KA-A_N (TSSOP, 8-Leads, Body 2x2.3mm, Pitch 0.5mm, IPC Medium Density)
footprint PVSP0008KA-A_L (TSSOP, 8-Leads, Body 2x2.3mm, Pitch 0.5mm, IPC High Density)
footprint PVSP0008KA-A_M (TSSOP, 8-Leads, Body 2x2.3mm, Pitch 0.5mm, IPC Low Density)
pins on every part: 4 GND (power) hidden, 8 VCC (power) hidden
part A pins: 1 1A (in), 2 1B (in), 7 1Y (out)
part B pins: 3 2Y (out), 5 2A (in), 6 2B (in)

## HD74ALVC2G14US
designator U?
Triple Schmitt Trigger Inverter Buffers; Published: 10-Feb-2010; DatasheetVersion: Rev.3.00, Dec-2003; PackageVersion: Sep-2005; PackageReference: PVSP0008KA-A; Publisher: Altium Limited; PackageDescription: 8-Pin Plastic Thin Shrink Small Outline Package 0.5 mm Pitch; Code_JEITA: P-VSSOP8-2.3x2-0.50; ComponentLink1Description: Manufacturer Link; ComponentLink1URL: http://sg.renesas.com/fmwk.jsp?cnt=unilogic_alvc_root.jsp&fp=/products/standard_ic/general_purpose_logic/uni_logic/unilogic_alvc/; ComponentLink2Description: Datasheet; ComponentLink2URL: http://documentation.renesas.com/eng/products/logic/rej03d0165_hd74alvc2g14.pdf; ComponentLink3Description: Packaging Specification; ComponentLink3URL: http://sg.renesas.com/media/products/common_info/package/pdf/ic/code/pvsp0008ka_a.pdf
footprint PVSP0008KA-A_N (TSSOP, 8-Leads, Body 2x2.3mm, Pitch 0.5mm, IPC Medium Density)
footprint PVSP0008KA-A_L (TSSOP, 8-Leads, Body 2x2.3mm, Pitch 0.5mm, IPC High Density)
footprint PVSP0008KA-A_M (TSSOP, 8-Leads, Body 2x2.3mm, Pitch 0.5mm, IPC Low Density)
pins on every part: 4 GND (power) hidden, 8 VCC (power) hidden
part A pins: 1 1A (in), 7 1~{Y} (out)
part B pins: 3 2A (in), 5 2~{Y} (out)
part C pins: 2 3~{Y} (out), 6 3A (in)

## HD74ALVC2G32US
designator U?
Dual 2-Input OR Gates; Published: 10-Feb-2010; DatasheetVersion: Rev.4.00, Dec-2003; PackageVersion: Sep-2005; PackageReference: PVSP0008KA-A; Publisher: Altium Limited; PackageDescription: 8-Pin Plastic Thin Shrink Small Outline Package 0.5 mm Pitch; Code_JEITA: P-VSSOP8-2.3x2-0.50; ComponentLink1Description: Manufacturer Link; ComponentLink1URL: http://sg.renesas.com/fmwk.jsp?cnt=unilogic_alvc_root.jsp&fp=/products/standard_ic/general_purpose_logic/uni_logic/unilogic_alvc/; ComponentLink2Description: Datasheet; ComponentLink2URL: http://documentation.renesas.com/eng/products/logic/rej03d0166_hd74alvc2g32.pdf; ComponentLink3Description: Packaging Specification; ComponentLink3URL: http://sg.renesas.com/media/products/common_info/package/pdf/ic/code/pvsp0008ka_a.pdf
footprint PVSP0008KA-A_N (TSSOP, 8-Leads, Body 2x2.3mm, Pitch 0.5mm, IPC Medium Density)
footprint PVSP0008KA-A_L (TSSOP, 8-Leads, Body 2x2.3mm, Pitch 0.5mm, IPC High Density)
footprint PVSP0008KA-A_M (TSSOP, 8-Leads, Body 2x2.3mm, Pitch 0.5mm, IPC Low Density)
pins on every part: 4 GND (power) hidden, 8 VCC (power) hidden
part A pins: 1 1A (in), 2 1B (in), 7 1Y (out)
part B pins: 3 2Y (out), 5 2A (in), 6 2B (in)

## HD74ALVC2G34US
designator U?
Triple Non-inverter Buffers; Published: 10-Feb-2010; DatasheetVersion: Rev.2.00, Dec-2003; PackageVersion: Sep-2005; PackageReference: PVSP0008KA-A; Publisher: Altium Limited; PackageDescription: 8-Pin Plastic Thin Shrink Small Outline Package 0.5 mm Pitch; Code_JEITA: P-VSSOP8-2.3x2-0.50; ComponentLink1Description: Manufacturer Link; ComponentLink1URL: http://sg.renesas.com/fmwk.jsp?cnt=unilogic_alvc_root.jsp&fp=/products/standard_ic/general_purpose_logic/uni_logic/unilogic_alvc/; ComponentLink2Description: Datasheet; ComponentLink2URL: http://documentation.renesas.com/eng/products/logic/rej03d0167_hd74alvc2g34.pdf; ComponentLink3Description: Packaging Specification; ComponentLink3URL: http://sg.renesas.com/media/products/common_info/package/pdf/ic/code/pvsp0008ka_a.pdf
footprint PVSP0008KA-A_N (TSSOP, 8-Leads, Body 2x2.3mm, Pitch 0.5mm, IPC Medium Density)
footprint PVSP0008KA-A_L (TSSOP, 8-Leads, Body 2x2.3mm, Pitch 0.5mm, IPC High Density)
footprint PVSP0008KA-A_M (TSSOP, 8-Leads, Body 2x2.3mm, Pitch 0.5mm, IPC Low Density)
pins on every part: 4 GND (power) hidden, 8 VCC (power) hidden
part A pins: 1 1A (in), 7 1Y (out)
part B pins: 3 2A (in), 5 2Y (out)
part C pins: 2 3Y (out), 6 3A (in)

## HD74ALVC2G53US
designator U?
2-Channel Analog Multiplexer / Demultiplexer; Published: 10-Feb-2010; DatasheetVersion: Rev.4.00, Dec-2003; PackageVersion: Sep-2005; PackageReference: PVSP0008KA-A; Publisher: Altium Limited; PackageDescription: 8-Pin Plastic Thin Shrink Small Outline Package 0.5 mm Pitch; Code_JEITA: P-VSSOP8-2.3x2-0.50; ComponentLink1Description: Manufacturer Link; ComponentLink1URL: http://sg.renesas.com/fmwk.jsp?cnt=unilogic_alvc_root.jsp&fp=/products/standard_ic/general_purpose_logic/uni_logic/unilogic_alvc/; ComponentLink2Description: Datasheet; ComponentLink2URL: http://documentation.renesas.com/eng/products/logic/rej03d0168_hd74alvc2g53.pdf; ComponentLink3Description: Packaging Specification; ComponentLink3URL: http://sg.renesas.com/media/products/common_info/package/pdf/ic/code/pvsp0008ka_a.pdf
footprint PVSP0008KA-A_N (TSSOP, 8-Leads, Body 2x2.3mm, Pitch 0.5mm, IPC Medium Density)
footprint PVSP0008KA-A_L (TSSOP, 8-Leads, Body 2x2.3mm, Pitch 0.5mm, IPC High Density)
footprint PVSP0008KA-A_M (TSSOP, 8-Leads, Body 2x2.3mm, Pitch 0.5mm, IPC Low Density)
pins: 1 COM (io), 2 INH (in), 3 GND (power), 4 GND (power), 5 A (in), 6 Y1 (io), 7 Y0 (io), 8 VCC (power)

## HD74ALVC2G66US
designator U?
2-Channel Analog Switch; Published: 10-Feb-2010; DatasheetVersion: Rev.1.00, Jan-2004; PackageVersion: Sep-2005; PackageReference: PVSP0008KA-A; Publisher: Altium Limited; PackageDescription: 8-Pin Plastic Thin Shrink Small Outline Package 0.5 mm Pitch; Code_JEITA: P-VSSOP8-2.3x2-0.50; ComponentLink1Description: Manufacturer Link; ComponentLink1URL: http://sg.renesas.com/fmwk.jsp?cnt=unilogic_alvc_root.jsp&fp=/products/standard_ic/general_purpose_logic/uni_logic/unilogic_alvc/; ComponentLink2Description: Datasheet; ComponentLink2URL: http://documentation.renesas.com/eng/products/logic/rej03d0177_hd74alvc2g66.pdf; ComponentLink3Description: Packaging Specification; ComponentLink3URL: http://sg.renesas.com/media/products/common_info/package/pdf/ic/code/pvsp0008ka_a.pdf
footprint PVSP0008KA-A_N (TSSOP, 8-Leads, Body 2x2.3mm, Pitch 0.5mm, IPC Medium Density)
footprint PVSP0008KA-A_L (TSSOP, 8-Leads, Body 2x2.3mm, Pitch 0.5mm, IPC High Density)
footprint PVSP0008KA-A_M (TSSOP, 8-Leads, Body 2x2.3mm, Pitch 0.5mm, IPC Low Density)
pins on every part: 4 GND (power) hidden, 8 VCC (power) hidden
part A pins: 1 IN/OUT1 (io), 2 OUT/IN1 (io), 7 CONT1 (in)
part B pins: 3 CONT2 (in), 5 IN/OUT2 (io), 6 OUT/IN2 (io)